# EAGLE library part HMC635X (library HMC635x)
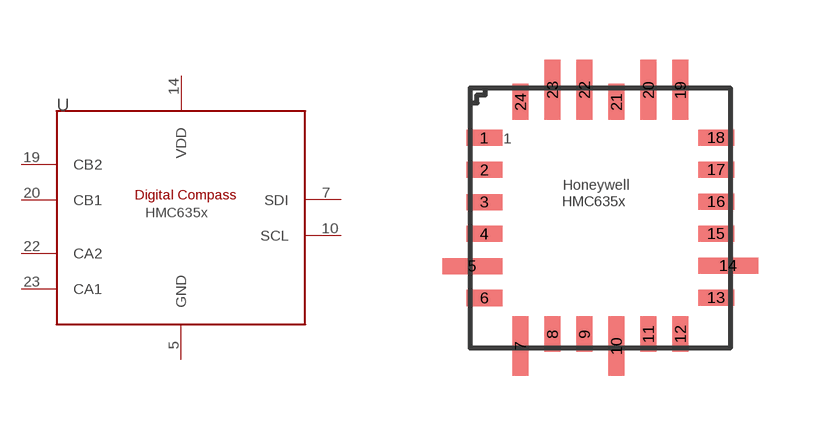
[diagram p0: symbol with the pads of 6.5MMLCC; footprint 6.5MMLCC]

Designator prefix -

## HMC635X"  [6.5MMLCC]
5  GND
7  SDI
10  SCL
14  VDD
19  CB2
20  CB1
22  CA2
23  CA1

## Footprint 6.5MMLCC (pad centres in mm)
smd 0.9 x 0.4: 1 0.35,5.25; 2 0.35,4.45; 3 0.35,3.65; 4 0.35,2.85; 6 0.35,1.25; 13 6.15,1.26; 15 6.15,2.86; 16 6.15,3.66; 17 6.15,4.46; 18 6.15,5.26
smd 1.5 x 0.4: 5 0.05,2.05; 14 6.45,2.06
smd 0.4 x 1.5: 7 1.26,0.05; 10 3.66,0.05; 19 5.26,6.45; 20 4.46,6.45; 22 2.86,6.45; 23 2.06,6.45
smd 0.4 x 0.9: 8 2.06,0.35; 9 2.86,0.35; 11 4.46,0.35; 12 5.26,0.35; 21 3.66,6.15; 24 1.26,6.15